# Altium footprint library R0201-STD.PcbLib: 1 footprints
Each footprint in its own frame and in the unit in brackets; x right, y up, seen from the top. Pads: shape width x height; smd on the part's side, far side on the other; paste and mask are expansions set on the pad; w line width, h text height; cw(c..) or ccw(c..) is an arc to the next point about the centre after c.
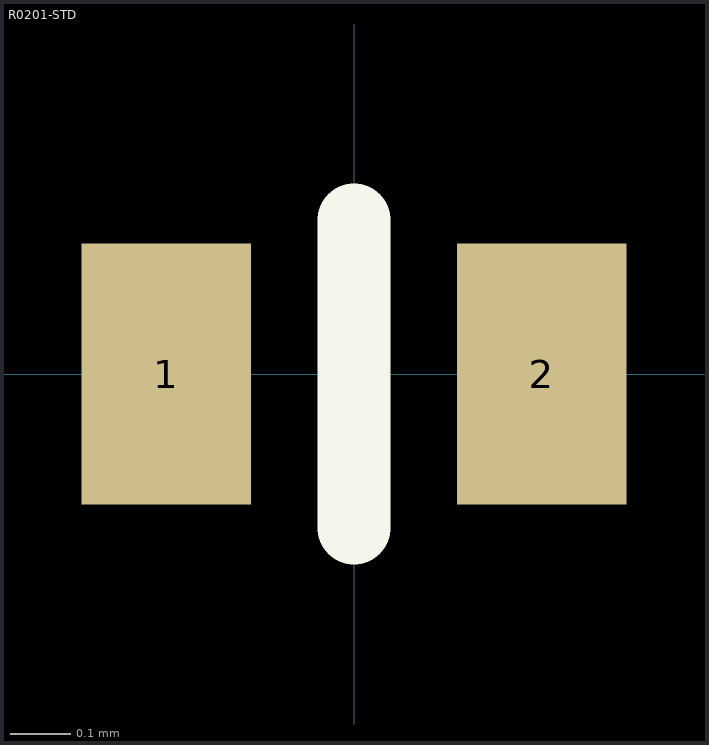
[diagram p0: the footprint, top view; thin cyan lines are the x and y axes]

## R0201-STD [mm]
pads (2):
  rect 0.28x0.43 smd: 1(-0.31,0) 2(0.31,0)
Top Overlay:
  lines w0.12: 0,-0.254 0,0.254
3D body: height 0.29, standoff -0.02, extent -0.3,-0.154 0.31,0.154